# Altium schematic symbol library A-Assembly.SCHLIB: 2 symbols
Pins are listed as number, name and electrical type; pins without a type are passive.

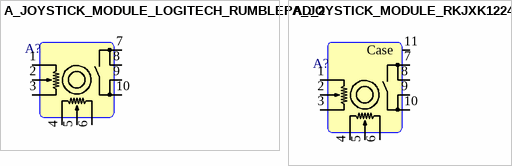
[diagram p0: symbols A_JOYSTICK_MODULE_LOGITECH_RUMBLEPAD_2 to A_JOYSTICK_MODULE_RKJXK122400Y]

## A_JOYSTICK_MODULE_LOGITECH_RUMBLEPAD_2
designator A?, comment Joystick Module from Logitech Rumblepad 2  (value not drawn)
footprint A_JOYSTICK_MODULE
pins: 1 XV+, 2 X, 3 XV-, 4 YV+, 5 Y, 6 YV-, 7 BTN+, 8 BTN+, 9 BTN-, 10 BTN-

## A_JOYSTICK_MODULE_RKJXK122400Y
designator A?  (value not drawn)
Type: RKJXK122400Y
footprint A_JOYSTICK_MODULE_RKJXK122400Y (ThumbPointer™ (Stick Controller) RKJXK/RKJXV Series)
pins: 1 XV+, 2 X, 3 XV-, 4 YV+, 5 Y, 6 YV-, 7 BTN+, 8 BTN+, 9 BTN-, 10 BTN-, 11 Case